# Altium footprint library SIR165DP.PcbLib: 1 footprints
Each footprint in its own frame and in the unit in brackets; x right, y up, seen from the top. Pads: shape width x height; smd on the part's side, far side on the other; paste and mask are expansions set on the pad; w line width, h text height; cw(c..) or ccw(c..) is an arc to the next point about the centre after c.
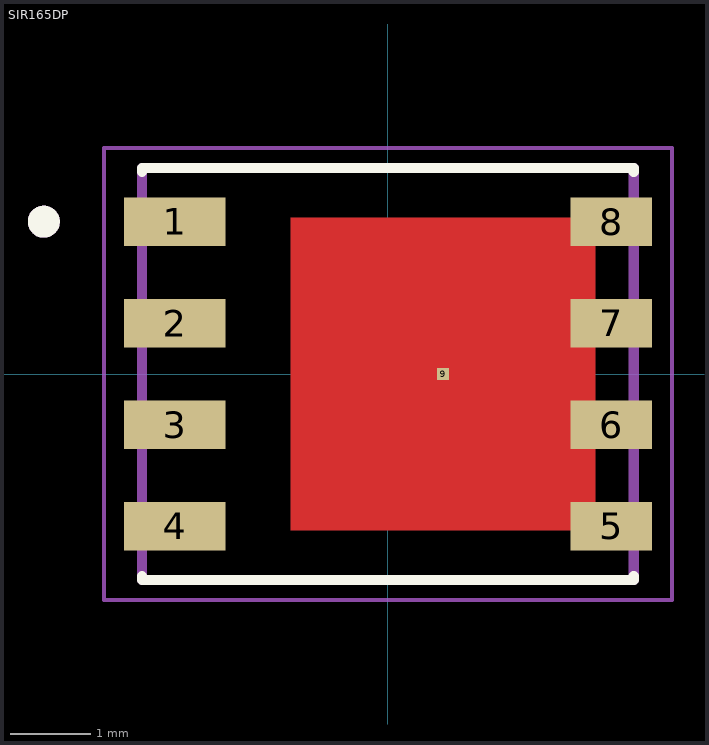
[diagram p0: the footprint, top view; thin cyan lines are the x and y axes]

## SIR165DP [mm]
pads (9):
  rect 1.27x0.61 smd: 1(-2.67,1.905) 2(-2.67,0.635) 3(-2.67,-0.635) 4(-2.67,-1.905)
  rect 1.02x0.61 smd: 5(2.795,-1.905) 6(2.795,-0.635) 7(2.795,0.635) 8(2.795,1.905)
  rect 0.15x0.15 smd paste+1.125 mask+1.88: 9(0.69,0)
Top Layer:
  region: 2.595,-1.955 -1.215,-1.955 -1.215,1.955 2.595,1.955
Top Overlay:
  circle w0.2: c-4.305,1.905 r0.1
  lines w0.127: -3.075,-2.53 -3.075,-2.575 3.075,-2.575 3.075,-2.53 ; -3.075,2.53 -3.075,2.575 3.075,2.575 3.075,2.53 ; -2.005,2.575 2,2.575 ; -2,-2.575 2,-2.575
Mechanical 13:
  circle w0.2: c-4.305,1.905 r0.1
  lines w0.127: -3.075,-2.575 -3.075,2.575 3.075,2.575 3.075,-2.575 -3.075,-2.575
Mechanical 15:
  lines w0.05: -3.555,-2.825 3.555,-2.825 3.555,2.825 -3.555,2.825 -3.555,-2.825
3D body "step_temp.STEP": height 1.12, standoff 0, extent -3.073,-2.578 3.073,2.578